# Altium footprint library L-SPE-PFL2015.PcbLib: 1 footprints
Each footprint in its own frame and in the unit in brackets; x right, y up, seen from the top. Pads: shape width x height; smd on the part's side, far side on the other; paste and mask are expansions set on the pad; w line width, h text height; cw(c..) or ccw(c..) is an arc to the next point about the centre after c.
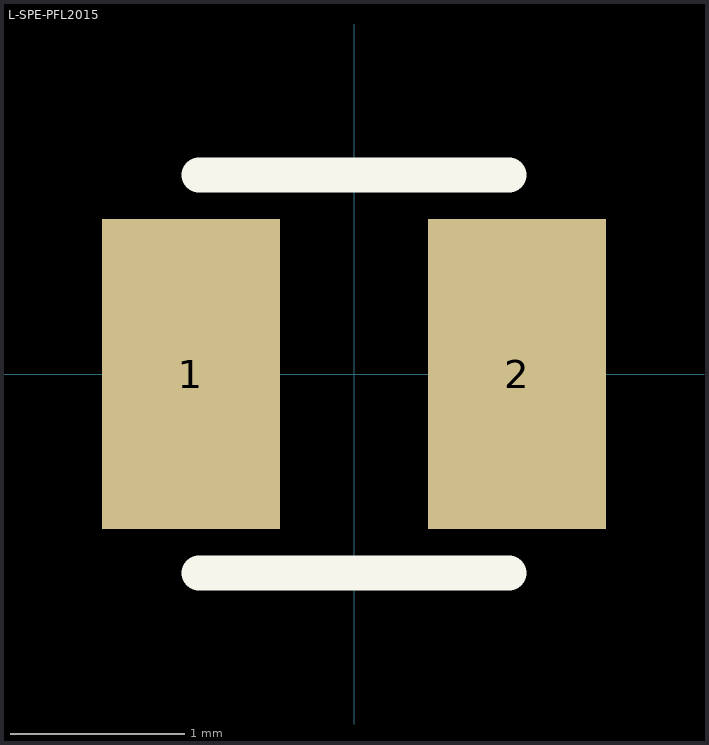
[diagram p0: the footprint, top view; thin cyan lines are the x and y axes]

## L-SPE-PFL2015 [mm]
pads (2):
  rect 1.02x1.78 smd: 1(-0.936,0) 2(0.936,0)
Top Overlay:
  lines w0.2: -0.889,-1.143 0.889,-1.143 ; -0.889,1.143 0.889,1.143
3D body: height 1.49, standoff -0.01, extent -1.1,-0.725 1.1,0.725